# Altium integrated library Molex FFC - FPC Connectors (SMT).IntLib: 638 symbols (part 20 of 20)
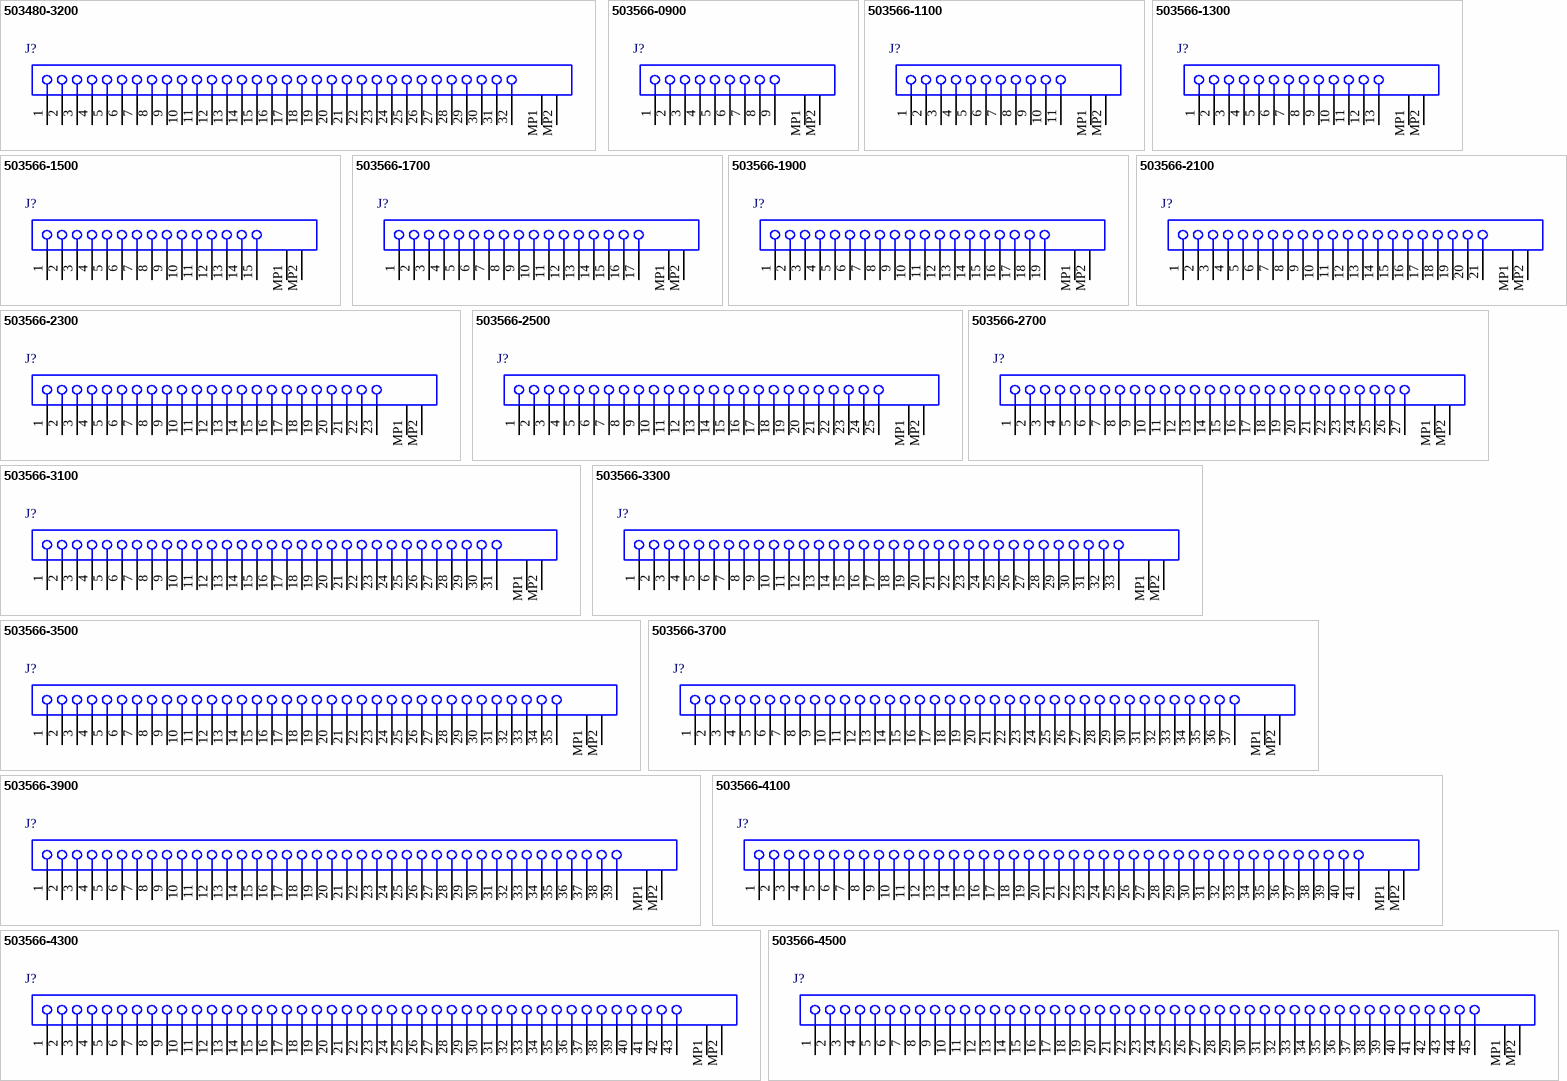
[diagram p40: symbols 503480-3200 to 503566-4500]

## 503566-3100
designator J?
0.3 mm Pitch Easy-On(TM) Housing Assembly FPC Connector, 0.95 mm Mated Height, Right Angle, SMT, Bottom Contact, 31 Circuits, -40 to 85 degC, ELV and RoHS Compliant, Tape and Reel; Manufacturer: Molex; PartNumber: 503566-3100; Circuits (Loaded): 31; Current (Max per Contact): 0.2A; Durability (mating cycles max): 10; Entry Angle: Side Entry; Mated Height: 0.95mm; Material - Metal: Phosphor Bronze; Material - Plating Mating: Gold over Nickel; PCB Locator: No; PCB Retention: None; Pitch - Mating Interface: 0.30mm; Polarized to PCB: Yes; Voltage (Max): 50V; PackageVersion: Rev. F, 06/2011; PackageReference: 503566-3100; PackageDescription: 31-Lead FPC Connector, Pitch 0.3 mm; Circuits (maximum): 31; Contact Position: Bottom; Number of Rows: 1; Orientation: Right Angle; Packing: Tape and Reel; RoHS: TRUE; Stackable: No; Mounting Technology: Surface Mount; ComponentLink1Description: Manufacturer URL; ComponentLink1URL: http://www.molex.com/molex/index.jsp; ComponentLink2Description: Datasheet; ComponentLink2URL: http://www.molex.com/webdocs/datasheets/pdf/en-us/5035663100_FFC_FPC_CONNECTORS.pdf; ComponentLink3Description: Package Specification; ComponentLink3URL: http://www.molex.com/pdm_docs/sd/5035663100_sd.pdf
footprint MOLX-503566-3100 (FPC Connector, 31-Leads, Right Angle, Pitch 0.3 mm, Mated Height 0.95 mm, SMT)
pins: 1, 2, 3, 4, 5, 6, 7, 8, 9, 10, 11, 12, 13, 14, 15, 16, 17, 18, 19, 20, 21, 22, 23, 24, 25, 26, 27, 28, 29, 30, 31, MP1, MP2

## 503566-3300
designator J?
0.3 mm Pitch Easy-On(TM) Housing Assembly FPC Connector, 0.95 mm Mated Height, Right Angle, SMT, Bottom Contact, 33 Circuits, -40 to 85 degC, ELV and RoHS Compliant, Tape and Reel; Manufacturer: Molex; PartNumber: 503566-3300; Circuits (Loaded): 33; Current (Max per Contact): 0.2A; Durability (mating cycles max): 10; Entry Angle: Side Entry; Mated Height: 0.95mm; Material - Metal: Phosphor Bronze; Material - Plating Mating: Gold over Nickel; PCB Locator: No; PCB Retention: None; Pitch - Mating Interface: 0.30mm; Polarized to PCB: Yes; Voltage (Max): 50V; PackageVersion: Rev. F, 06/2011; PackageReference: 503566-3300; PackageDescription: 33-Lead FPC Connector, Pitch 0.3 mm; Circuits (maximum): 33; Contact Position: Bottom; Number of Rows: 1; Orientation: Right Angle; Packing: Tape and Reel; RoHS: TRUE; Stackable: No; Mounting Technology: Surface Mount; ComponentLink1Description: Manufacturer URL; ComponentLink1URL: http://www.molex.com/molex/index.jsp; ComponentLink2Description: Datasheet; ComponentLink2URL: http://www.molex.com/webdocs/datasheets/pdf/en-us/5035663300_FFC_FPC_CONNECTORS.pdf; ComponentLink3Description: Package Specification; ComponentLink3URL: http://www.molex.com/pdm_docs/sd/5035663300_sd.pdf
footprint MOLX-503566-3300 (FPC Connector, 33-Leads, Right Angle, Pitch 0.3 mm, Mated Height 0.95 mm, SMT)
pins: 1, 2, 3, 4, 5, 6, 7, 8, 9, 10, 11, 12, 13, 14, 15, 16, 17, 18, 19, 20, 21, 22, 23, 24, 25, 26, 27, 28, 29, 30, 31, 32, 33, MP1, MP2

## 503566-3500
designator J?
0.3 mm Pitch Easy-On(TM) Housing Assembly FPC Connector, 0.95 mm Mated Height, Right Angle, SMT, Bottom Contact, 35 Circuits, -40 to 85 degC, ELV and RoHS Compliant, Tape and Reel; Manufacturer: Molex; PartNumber: 503566-3500; Circuits (Loaded): 35; Current (Max per Contact): 0.2A; Durability (mating cycles max): 10; Entry Angle: Side Entry; Mated Height: 0.95mm; Material - Metal: Phosphor Bronze; Material - Plating Mating: Gold over Nickel; PCB Locator: No; PCB Retention: None; Pitch - Mating Interface: 0.30mm; Polarized to PCB: Yes; Voltage (Max): 50V; PackageVersion: Rev. F, 06/2011; PackageReference: 503566-3500; PackageDescription: 35-Lead FPC Connector, Pitch 0.3 mm; Circuits (maximum): 35; Contact Position: Bottom; Number of Rows: 1; Orientation: Right Angle; Packing: Tape and Reel; RoHS: TRUE; Stackable: No; Mounting Technology: Surface Mount; ComponentLink1Description: Manufacturer URL; ComponentLink1URL: http://www.molex.com/molex/index.jsp; ComponentLink2Description: Datasheet; ComponentLink2URL: http://www.molex.com/webdocs/datasheets/pdf/en-us/5035663500_FFC_FPC_CONNECTORS.pdf; ComponentLink3Description: Package Specification; ComponentLink3URL: http://www.molex.com/pdm_docs/sd/5035663500_sd.pdf
footprint MOLX-503566-3500 (FPC Connector, 35-Leads, Right Angle, Pitch 0.3 mm, Mated Height 0.95 mm, SMT)
pins: 1, 2, 3, 4, 5, 6, 7, 8, 9, 10, 11, 12, 13, 14, 15, 16, 17, 18, 19, 20, 21, 22, 23, 24, 25, 26, 27, 28, 29, 30, 31, 32, 33, 34, 35, MP1, MP2

## 503566-3700
designator J?
0.3 mm Pitch Easy-On(TM) Housing Assembly FPC Connector, 0.95 mm Mated Height, Right Angle, SMT, Bottom Contact, 37 Circuits, -40 to 85 degC, ELV and RoHS Compliant, Tape and Reel; Manufacturer: Molex; PartNumber: 503566-3700; Circuits (Loaded): 37; Current (Max per Contact): 0.2A; Durability (mating cycles max): 10; Entry Angle: Side Entry; Mated Height: 0.95mm; Material - Metal: Phosphor Bronze; Material - Plating Mating: Gold over Nickel; PCB Locator: No; PCB Retention: None; Pitch - Mating Interface: 0.30mm; Polarized to PCB: Yes; Voltage (Max): 50V; PackageVersion: Rev. F, 06/2011; PackageReference: 503566-3700; PackageDescription: 37-Lead FPC Connector, Pitch 0.3 mm; Circuits (maximum): 37; Contact Position: Bottom; Number of Rows: 1; Orientation: Right Angle; Packing: Tape and Reel; RoHS: TRUE; Stackable: No; Mounting Technology: Surface Mount; ComponentLink1Description: Manufacturer URL; ComponentLink1URL: http://www.molex.com/molex/index.jsp; ComponentLink2Description: Datasheet; ComponentLink2URL: http://www.molex.com/webdocs/datasheets/pdf/en-us/5035663700_FFC_FPC_CONNECTORS.pdf; ComponentLink3Description: Package Specification; ComponentLink3URL: http://www.molex.com/pdm_docs/sd/5035663700_sd.pdf
footprint MOLX-503566-3700 (FPC Connector, 37-Leads, Right Angle, Pitch 0.3 mm, Mated Height 0.95 mm, SMT)
pins: 1, 2, 3, 4, 5, 6, 7, 8, 9, 10, 11, 12, 13, 14, 15, 16, 17, 18, 19, 20, 21, 22, 23, 24, 25, 26, 27, 28, 29, 30, 31, 32, 33, 34, 35, 36, 37, MP1, MP2

## 503566-3900
designator J?
0.3 mm Pitch Easy-On(TM) Housing Assembly FPC Connector, 0.95 mm Mated Height, Right Angle, SMT, Bottom Contact, 39 Circuits, -40 to 85 degC, ELV and RoHS Compliant, Tape and Reel; Manufacturer: Molex; PartNumber: 503566-3900; Circuits (Loaded): 39; Current (Max per Contact): 0.2A; Durability (mating cycles max): 10; Entry Angle: Side Entry; Mated Height: 0.95mm; Material - Metal: Phosphor Bronze; Material - Plating Mating: Gold over Nickel; PCB Locator: No; PCB Retention: None; Pitch - Mating Interface: 0.30mm; Polarized to PCB: Yes; Voltage (Max): 50V; PackageVersion: Rev. F, 06/2011; PackageReference: 503566-3900; PackageDescription: 39-Lead FPC Connector, Pitch 0.3 mm; Circuits (maximum): 39; Contact Position: Bottom; Number of Rows: 1; Orientation: Right Angle; Packing: Tape and Reel; RoHS: TRUE; Stackable: No; Mounting Technology: Surface Mount; ComponentLink1Description: Manufacturer URL; ComponentLink1URL: http://www.molex.com/molex/index.jsp; ComponentLink2Description: Datasheet; ComponentLink2URL: http://www.molex.com/webdocs/datasheets/pdf/en-us/5035663900_FFC_FPC_CONNECTORS.pdf; ComponentLink3Description: Package Specification; ComponentLink3URL: http://www.molex.com/pdm_docs/sd/5035663900_sd.pdf
footprint MOLX-503566-3900 (FPC Connector, 39-Leads, Right Angle, Pitch 0.3 mm, Mated Height 0.95 mm, SMT)
pins: 1, 2, 3, 4, 5, 6, 7, 8, 9, 10, 11, 12, 13, 14, 15, 16, 17, 18, 19, 20, 21, 22, 23, 24, 25, 26, 27, 28, 29, 30, 31, 32, 33, 34, 35, 36, 37, 38, 39, MP1, MP2

## 503566-4100
designator J?
0.3 mm Pitch Easy-On(TM) Housing Assembly FPC Connector, 0.95 mm Mated Height, Right Angle, SMT, Bottom Contact, 41 Circuits, -40 to 85 degC, ELV and RoHS Compliant, Tape and Reel; Manufacturer: Molex; PartNumber: 503566-4100; Circuits (Loaded): 41; Current (Max per Contact): 0.2A; Durability (mating cycles max): 10; Entry Angle: Side Entry; Mated Height: 0.95mm; Material - Metal: Phosphor Bronze; Material - Plating Mating: Gold over Nickel; PCB Locator: No; PCB Retention: None; Pitch - Mating Interface: 0.30mm; Polarized to PCB: Yes; Voltage (Max): 50V; PackageVersion: Rev. F, 06/2011; PackageReference: 503566-4100; PackageDescription: 41-Lead FPC Connector, Pitch 0.3 mm; Circuits (maximum): 41; Contact Position: Bottom; Number of Rows: 1; Orientation: Right Angle; Packing: Tape and Reel; RoHS: TRUE; Stackable: No; Mounting Technology: Surface Mount; ComponentLink1Description: Manufacturer URL; ComponentLink1URL: http://www.molex.com/molex/index.jsp; ComponentLink2Description: Datasheet; ComponentLink2URL: http://www.molex.com/webdocs/datasheets/pdf/en-us/5035664100_FFC_FPC_CONNECTORS.pdf; ComponentLink3Description: Package Specification; ComponentLink3URL: http://www.molex.com/pdm_docs/sd/5035664100_sd.pdf
footprint MOLX-503566-4100 (FPC Connector, 41-Leads, Right Angle, Pitch 0.3 mm, Mated Height 0.95 mm, SMT)
pins: 1, 2, 3, 4, 5, 6, 7, 8, 9, 10, 11, 12, 13, 14, 15, 16, 17, 18, 19, 20, 21, 22, 23, 24, 25, 26, 27, 28, 29, 30, 31, 32, 33, 34, 35, 36, 37, 38, 39, 40, 41, MP1, MP2

## 503566-4300
designator J?
0.3 mm Pitch Easy-On(TM) Housing Assembly FPC Connector, 0.95 mm Mated Height, Right Angle, SMT, Bottom Contact, 43 Circuits, -40 to 85 degC, ELV and RoHS Compliant, Tape and Reel; Manufacturer: Molex; PartNumber: 503566-4300; Circuits (Loaded): 43; Current (Max per Contact): 0.2A; Durability (mating cycles max): 10; Entry Angle: Side Entry; Mated Height: 0.95mm; Material - Metal: Phosphor Bronze; Material - Plating Mating: Gold over Nickel; PCB Locator: No; PCB Retention: None; Pitch - Mating Interface: 0.30mm; Polarized to PCB: Yes; Voltage (Max): 50V; PackageVersion: Rev. F, 06/2011; PackageReference: 503566-4300; PackageDescription: 43-Lead FPC Connector, Pitch 0.3 mm; Circuits (maximum): 43; Contact Position: Bottom; Number of Rows: 1; Orientation: Right Angle; Packing: Tape and Reel; RoHS: TRUE; Stackable: No; Mounting Technology: Surface Mount; ComponentLink1Description: Manufacturer URL; ComponentLink1URL: http://www.molex.com/molex/index.jsp; ComponentLink2Description: Datasheet; ComponentLink2URL: http://www.molex.com/webdocs/datasheets/pdf/en-us/5035664300_FFC_FPC_CONNECTORS.pdf; ComponentLink3Description: Package Specification; ComponentLink3URL: http://www.molex.com/pdm_docs/sd/5035664300_sd.pdf
footprint MOLX-503566-4300 (FPC Connector, 43-Leads, Right Angle, Pitch 0.3 mm, Mated Height 0.95 mm, SMT)
pins: 1, 2, 3, 4, 5, 6, 7, 8, 9, 10, 11, 12, 13, 14, 15, 16, 17, 18, 19, 20, 21, 22, 23, 24, 25, 26, 27, 28, 29, 30, 31, 32, 33, 34, 35, 36, 37, 38, 39, 40, 41, 42, 43, MP1, MP2

## 503566-4500
designator J?
0.3 mm Pitch Easy-On(TM) Housing Assembly FPC Connector, 0.95 mm Mated Height, Right Angle, SMT, Bottom Contact, 45 Circuits, -40 to 85 degC, ELV and RoHS Compliant, Tape and Reel; Manufacturer: Molex; PartNumber: 503566-4500; Circuits (Loaded): 45; Current (Max per Contact): 0.2A; Durability (mating cycles max): 10; Entry Angle: Side Entry; Mated Height: 0.95mm; Material - Metal: Phosphor Bronze; Material - Plating Mating: Gold over Nickel; PCB Locator: No; PCB Retention: None; Pitch - Mating Interface: 0.30mm; Polarized to PCB: Yes; Voltage (Max): 50V; PackageVersion: Rev. F, 06/2011; PackageReference: 503566-4500; PackageDescription: 45-Lead FPC Connector, Pitch 0.3 mm; Circuits (maximum): 45; Contact Position: Bottom; Number of Rows: 1; Orientation: Right Angle; Packing: Tape and Reel; RoHS: TRUE; Stackable: No; Mounting Technology: Surface Mount; ComponentLink1Description: Manufacturer URL; ComponentLink1URL: http://www.molex.com/molex/index.jsp; ComponentLink2Description: Datasheet; ComponentLink2URL: http://www.molex.com/webdocs/datasheets/pdf/en-us/5035664500_FFC_FPC_CONNECTORS.pdf; ComponentLink3Description: Package Specification; ComponentLink3URL: http://www.molex.com/pdm_docs/sd/5035664500_sd.pdf
footprint MOLX-503566-4500 (FPC Connector, 45-Leads, Right Angle, Pitch 0.3 mm, Mated Height 0.95 mm, SMT)
pins: 1, 2, 3, 4, 5, 6, 7, 8, 9, 10, 11, 12, 13, 14, 15, 16, 17, 18, 19, 20, 21, 22, 23, 24, 25, 26, 27, 28, 29, 30, 31, 32, 33, 34, 35, 36, 37, 38, 39, 40, 41, 42, 43, 44, 45, MP1, MP2